# Altium schematic symbol library RC0603FR-0710KL.SchLib: 1 symbol
Pins are listed as number, name and electrical type; pins without a type are passive.

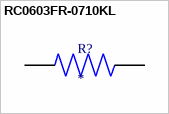
[diagram p0: symbol RC0603FR-0710KL]

## RC0603FR-0710KL
designator R?
10 ÐºÐžÐ¼ Â±1% 0,1 Ð’Ñ‚, 1/10 Ð’Ñ‚ Ð§Ð¸Ð¿-Ñ€ÐµÐ·Ð¸ÑÑ‚Ð¾Ñ€ 0603 (1608 Ð¼ÐµÑ‚Ñ€Ð¸Ñ‡ÐµÑÐºÐ¸Ð¹) Ð²Ð»Ð°Ð³Ð¾ÑÑ‚Ð¾Ð¹ÐºÐ¸Ð¹ Ñ‚Ð¾Ð»ÑÑ‚Ð¾Ð¿Ð»ÐµÐ½Ð¾Ñ‡Ð½Ñ‹Ð¹; MF: Yageo Corporation; MP: RC0603FR0710KL; SnapEDA_Link: https://www.snapeda.com/parts/RC0603FR0710KL/Yageo/view-part/?ref=snap; Package: 0603-2 YAGEO; Value: *; Check_prices: https://www.snapeda.com/parts/RC0603FR0710KL/Yageo/view-part/?ref=eda
footprint RESC1607X60N
pins: 1, 2